# Altium schematic symbol library BU7251G.Schlib: 1 symbol
Pins are listed as number, name and electrical type; pins without a type are passive.

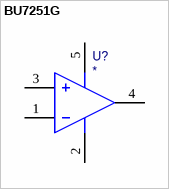
[diagram p0: symbol BU7251G]

## BU7251G
designator U?
pins: 1 IN-, 2 GND, 3 IN+, 4 OUT, 5 VCC